# Altium footprint library RES_0603.PcbLib: 2 footprints
Each footprint in its own frame and in the unit in brackets; x right, y up, seen from the top. Pads: shape width x height; smd on the part's side, far side on the other; paste and mask are expansions set on the pad; w line width, h text height; cw(c..) or ccw(c..) is an arc to the next point about the centre after c.
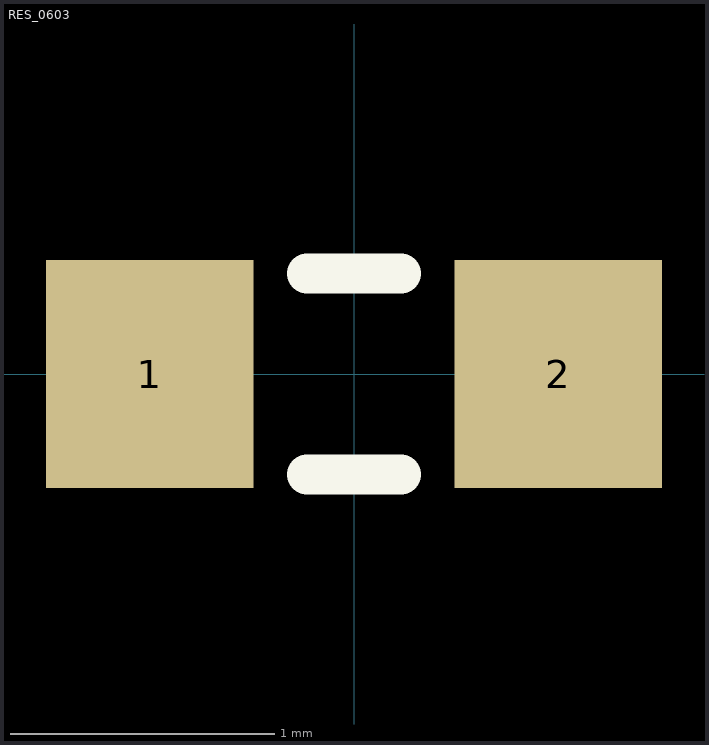
[diagram p0: the footprints below, top view; thin cyan lines are the x and y axes]

## CAP_0402 [mil]

## RES_0603 [mil]
pads (2):
  rect 31x34 smd: 1(-30.5,0) 2(30.5,0)
Top Overlay:
  lines w6: -7,-15 7,-15 ; -7,15 7,15
3D body "User Library-RES_1609-0603.STEP": height 20.58, standoff -1.47, extent -33.46,-15.75 33.46,15.75